# EAGLE library part 74HC4538 (library dpx-IC)
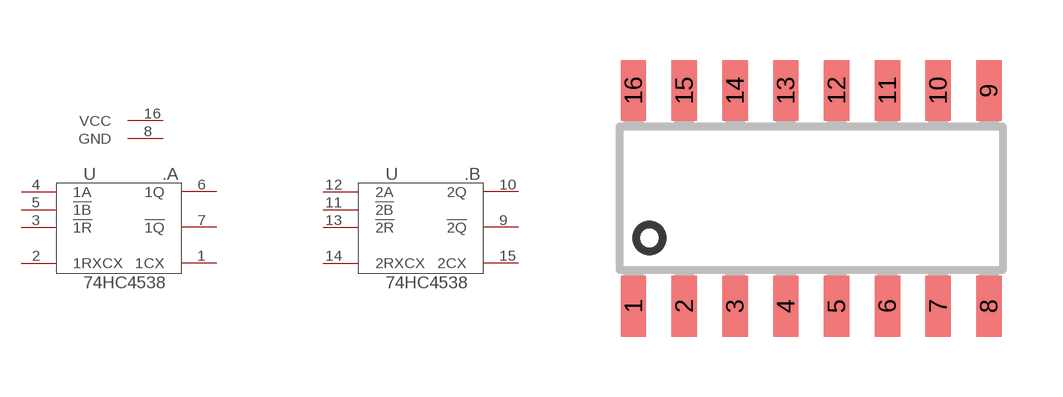
[diagram p13: symbol with the pads of SOIC16; footprint SOIC16]

Designator prefix -

## 74HC4538  [SOIC16]
1  1CX
2  1RXCX
3  !1R
4  1A
5  !1B
6  1Q
7  !1Q
8  GND
9  !2Q
10  2Q
11  !2B
12  2A
13  !2R
14  2RXCX
15  2CX
16  VCC

## Footprint SOIC16 (pad centres in mm)
SMALL OUTLINE INTEGRATED CIRCUIT 16-Pin (150-Mil) SOIC Source: http://www.cypress.com .. 38-12025_0P_V.pdf
smd 0.635 x 1.524: 1 -4.445,-2.695; 2 -3.175,-2.695; 3 -1.905,-2.695; 4 -0.635,-2.695; 5 0.635,-2.695; 6 1.905,-2.695; 7 3.175,-2.695; 8 4.445,-2.695; 9 4.445,2.695; 10 3.175,2.695; 11 1.905,2.695; 12 0.635,2.695; 13 -0.635,2.695; 14 -1.905,2.695; 15 -3.175,2.695; 16 -4.445,2.695